# Altium footprint library Switcher.PcbLib: 2 footprints
Each footprint in its own frame and in the unit in brackets; x right, y up, seen from the top. Pads: shape width x height; smd on the part's side, far side on the other; paste and mask are expansions set on the pad; w line width, h text height; cw(c..) or ccw(c..) is an arc to the next point about the centre after c.
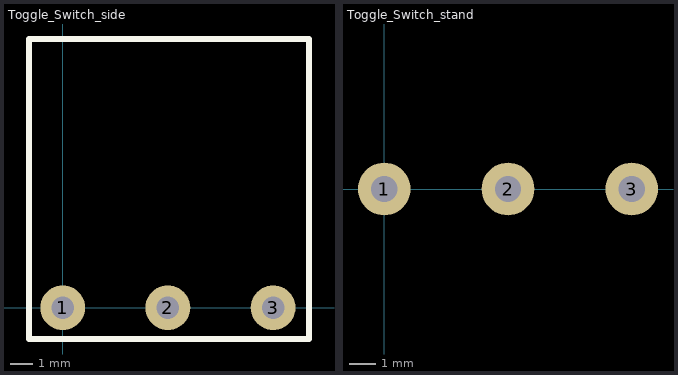
[diagram p0: the footprints below, top view; thin cyan lines are the x and y axes]

## Toggle_Switch_side [mm]
pads (3):
  round 2 hole 1: 1(0,0) 2(4.7,0) 3(9.4,0)
Top Overlay:
  lines w0.254: -1.5,-1.4 -1.5,12 11,12 11,-1.4 -1.5,-1.4
3D body "Toggle_switch_боком.STEP": height 6.93, standoff -2.86, extent -1.6,-0.37 11.1,26.57

## Toggle_Switch_stand [mm] "stand orintation"
pads (3):
  round 2 hole 1: 1(0,0) 2(4.7,0) 3(9.4,0)
3D body "User Library-SLB12814.STEP": height 9.65, standoff -2.6, extent -0.8,-3.2 13.2,3